# EAGLE library part SFW30R-2STE1LF (library FCI_By_element14_Batch_1)
FFC/FPC CONNECTOR, RECEPTACLE 30POS 1ROW
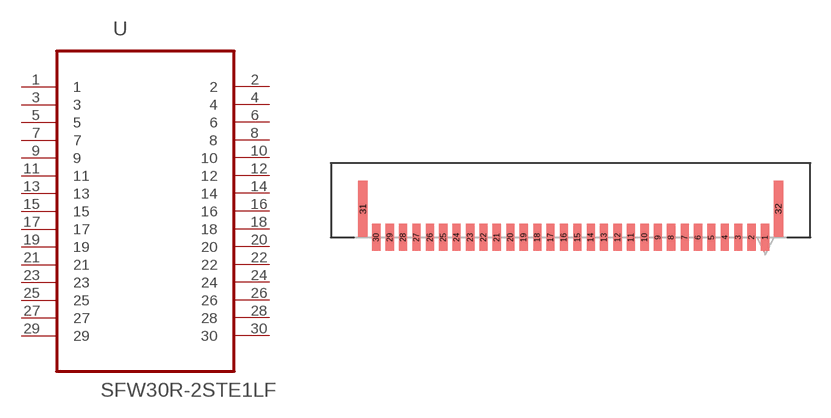
[diagram p74: symbol with the pads of FCI_SFW30R-2STE1LF; footprint FCI_SFW30R-2STE1LF]

Designator prefix U

## SFW30R-2STE1LF (MPN: SFW30R-2STE1LF; OC_FARNELL: 1632175; OC_NEWARK: 57K7662; PACKAGE: CONNECTOR-30POS; SUPPLIER: FCI)  [FCI_SFW30R-2STE1LF]
1  1  pas
2  2  pas
3  3  pas
4  4  pas
5  5  pas
6  6  pas
7  7  pas
8  8  pas
9  9  pas
10  10  pas
11  11  pas
12  12  pas
13  13  pas
14  14  pas
15  15  pas
16  16  pas
17  17  pas
18  18  pas
19  19  pas
20  20  pas
21  21  pas
22  22  pas
23  23  pas
24  24  pas
25  25  pas
26  26  pas
27  27  pas
28  28  pas
29  29  pas
30  30  pas

## Footprint FCI_SFW30R-2STE1LF (pad centres in mm)
smd 0.61 x 2.007: 1 14.503,2.743; 2 13.487,2.743; 3 12.497,2.743; 4 11.506,2.743; 5 10.49,2.743; 6 9.5,2.743; 7 8.509,2.743; 8 7.493,2.743; 9 6.502,2.743; 10 5.512,2.743; 11 4.496,2.743; 12 3.505,2.743; 13 2.489,2.743; 14 1.499,2.743; 15 0.508,2.743; 16 -0.508,2.743; 17 -1.499,2.743; 18 -2.489,2.743; 19 -3.505,2.743; 20 -4.496,2.743; 21 -5.512,2.743; 22 -6.502,2.743; 23 -7.493,2.743; 24 -8.509,2.743; 25 -9.5,2.743; 26 -10.49,2.743; 27 -11.506,2.743; 28 -12.497,2.743; 29 -13.487,2.743; 30 -14.503,2.743
smd 0.711 x 4.191: 31 -15.494,4.877; 32 15.494,4.877